# EAGLE library part W25X40CLUXIG_TR (library main_board)
Spiflash, 4m-Bit, 4kb Uniform Se
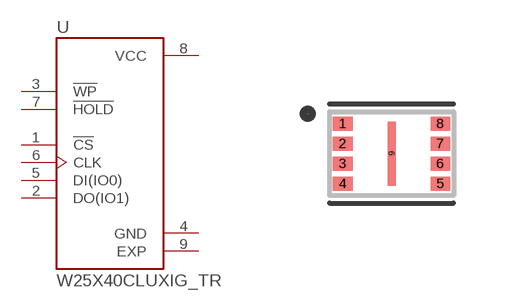
[diagram p6: symbol with the pads of PSON50P300X200X60-9N; footprint PSON50P300X200X60-9N]

Designator prefix U

## W25X40CLUXIG_TR (DESCRIPTION: FLASH Memory IC 4Mb (512K x 8) SPI 104MHz 8-USON (2x3); DIGI-KEY_PART_NUMBER: W25X40CLUXIGCT-ND; MF: Winbond Electronics; MP: W25X40CLUXIG TR; PACKAGE: UFDFN-8 Winbond; PURCHASE-URL: https://pricing.snapeda.com/search/part/W25X40CLUXIG TR/?ref=eda)  [PSON50P300X200X60-9N]
1  !CS  in
2  DO(IO1)
3  !WP  in
4  GND  pwr
5  DI(IO0)
6  CLK  in
7  !HOLD  in
8  VCC  pwr
9  EXP  pwr

## Footprint PSON50P300X200X60-9N (pad centres in mm)
smd 0.49 x 0.35: 1 -1.22,0.75; 2 -1.22,0.25; 3 -1.22,-0.25; 4 -1.22,-0.75; 5 1.22,-0.75; 6 1.22,-0.25; 7 1.22,0.25; 8 1.22,0.75
smd 0.2 x 1.6: 9 0,0